# Altium footprint library SmartScale_PcbLib1.PcbLib: 51 footprints (part 4 of 4)
Each footprint in its own frame and in the unit in brackets; x right, y up, seen from the top. Pads: shape width x height; smd on the part's side, far side on the other; paste and mask are expansions set on the pad; w line width, h text height; cw(c..) or ccw(c..) is an arc to the next point about the centre after c.
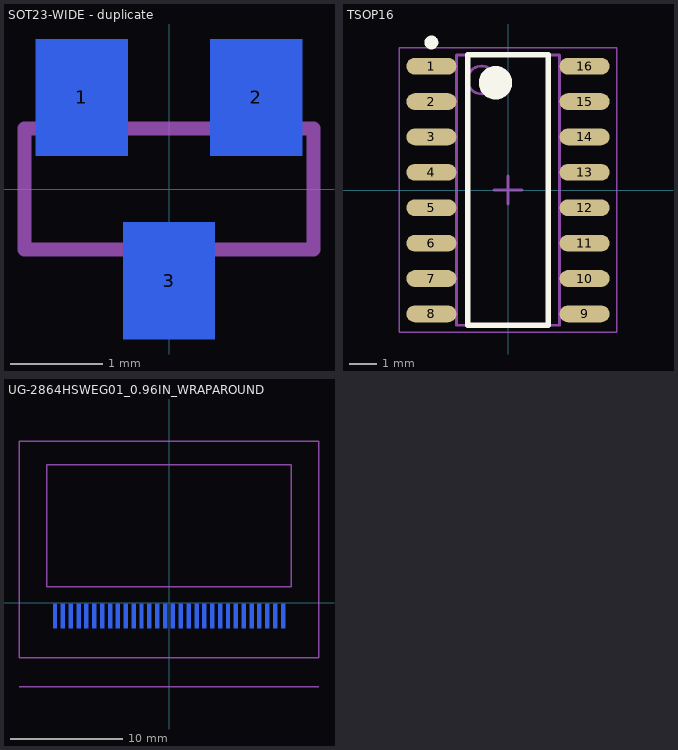
[diagram p3: the footprints below, top view; thin cyan lines are the x and y axes]

## SOT23-WIDE - duplicate [mm] "SOT23-WIDE"
pads (3):
  rect 1x1.27 smd far side: 1(-0.95,1) 2(0.95,1) 3(0,-1)
Mechanical 4:
  region: -1.168,1.295 -1.168,0.711 -0.711,0.711 -0.711,1.295
  region: 0.711,1.295 0.711,0.711 1.168,0.711 1.168,1.295
  region: -0.229,-0.711 -0.229,-1.295 0.229,-1.295 0.229,-0.711
  lines w0.152: -1.573,-0.66 1.573,-0.66 1.573,0.66 -1.573,0.66 -1.573,-0.66
Mechanical 8:
  lines w0.152: -1.573,0.653 -1.573,-0.66 -0.514,-0.66 ; -0.436,0.66 0.422,0.66 ; 0.564,-0.66 1.573,-0.66 1.573,0.653

## TSOP16 [mm] "TSOP, 16-Leads, Body 9,90x3,90mm, Pitch 1,27mm, IPC Medium Density"
height 1.6
pads (16):
  oval 1.8x0.6 smd: 1(-2.75,4.445) 2(-2.75,3.175) 3(-2.75,1.905) 4(-2.75,0.635) 5(-2.75,-0.635) 6(-2.75,-1.905) 7(-2.75,-3.175) 8(-2.75,-4.445) 9(2.75,-4.445) 10(2.75,-3.175) 11(2.75,-1.905) 12(2.75,-0.635) 13(2.75,0.635) 14(2.75,1.905) 15(2.75,3.175) 16(2.75,4.445)
Top Overlay:
  circle w0.25: c-2.75,5.295 r0.125
  circle w0.6: c-0.45,3.85 r0.3
  lines w0.2: -1.45,-4.85 -1.45,4.85 1.45,4.85 1.45,-4.85 -1.45,-4.85
Mechanical 13:
  circle w0.1: c-0.95,3.95 r0.5
  lines w0.1: -1.85,-4.85 -1.85,4.85 1.85,4.85 1.85,-4.85 -1.85,-4.85
Mechanical 15:
  lines w0.05: -3.9,-5.1 -3.9,5.1 3.9,5.1 3.9,-5.1 -3.9,-5.1
  lines w0.1: -0.5,0 0.5,0 ; 0,-0.5 0,0.5
3D body "TSOP16.step": height 1.6, standoff 0, extent -3,-4.85 3,4.85

## UG-2864HSWEG01_0.96IN_WRAPAROUND [mm] "UG-2864HSWEG01_0.96IN_WRAPAROUND"
pads (30):
  rect 0.35x2.2 smd far side: 1(-10.15,-1.2) 2(-9.45,-1.2) 3(-8.75,-1.2) 4(-8.05,-1.2) 5(-7.35,-1.2) 6(-6.65,-1.2) 7(-5.95,-1.2) 8(-5.25,-1.2) 9(-4.55,-1.2) 10(-3.85,-1.2) 11(-3.15,-1.2) 12(-2.45,-1.2) 13(-1.75,-1.2) 14(-1.05,-1.2) 15(-0.35,-1.2) 16(0.35,-1.2) 17(1.05,-1.2) 18(1.75,-1.2) 19(2.45,-1.2) 20(3.15,-1.2) 21(3.85,-1.2) 22(4.55,-1.2) 23(5.25,-1.2) 24(5.95,-1.2) 25(6.65,-1.2) 26(7.35,-1.2) 27(8.05,-1.2) 28(8.75,-1.2) 29(9.45,-1.2) 30(10.15,-1.2)
Mechanical 3:
  lines w0.127: -13.35,-7.5 13.35,-7.5 ; -10.872,1.396 -10.872,12.26 10.872,12.26 10.872,1.396 -10.872,1.396
  text "PCB EDGE (1.6mm)" at -5.2,-7 h0.69
Mechanical 4:
  text "30" at 10.45,0.412 h0.69
  text "20" at 3.3,0.412 h0.69
  text "10" at -3.65,0.412 h0.69
  text "1" at -9.95,0.512 h0.69
Mechanical 7:
  lines w0.127: -13.353,14.36 -13.35,-4.9 13.35,-4.9 13.35,14.36 -13.353,14.36